# Altium schematic symbol library KTIR0711S.SchLib: 2 symbols
Pins are listed as number, name and electrical type; pins without a type are passive.

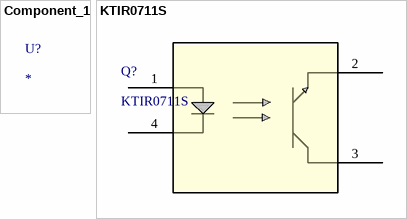
[diagram p0: symbols Component_1 to KTIR0711S]

## Component_1
designator U?
Value: *; HelpURL: *; MPN: *; Supplier: *; SupplierPartNumber: *

## KTIR0711S
designator Q?
No Description Available; Mfr_Name: Kingbright; Type: DEV; Copyright: Copyright (C) 2023 Ultra Librarian. All rights reserved.; Manufacturer_Part_Number: KTIR0711S; RefDes: RefDes
footprint KTIR0711S_KNB
pins: 1, 2, 3, 4